# Altium schematic symbol library LTST-C190GKT.SchLib: 1 symbol
Pins are listed as number, name and electrical type; pins without a type are passive.

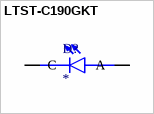
[diagram p0: symbol LTST-C190GKT]

## LTST-C190GKT
designator D?
MF: {'manufacturer': u'Lite-On Inc.'}; MP: LTST-C190GKT; Package: None; Price: None; Value: *; Availability: Unavailable
footprint LEDM1608X80
pins: A, C